# Altium schematic symbol library usb6b1.SchLib: 1 symbol
Pins are listed as number, name and electrical type; pins without a type are passive.

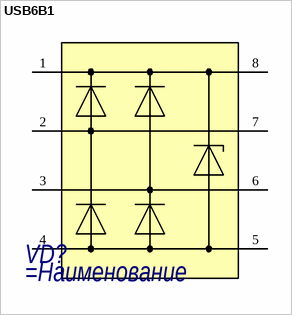
[diagram p0: symbol USB6B1]

## USB6B1
designator VD?
=Описание
pins: 1, 2, 3, 4, 5, 6, 7, 8